# EAGLE library part HEADER-1X16 (library Adafruit Feather 328P)
PIN HEADER
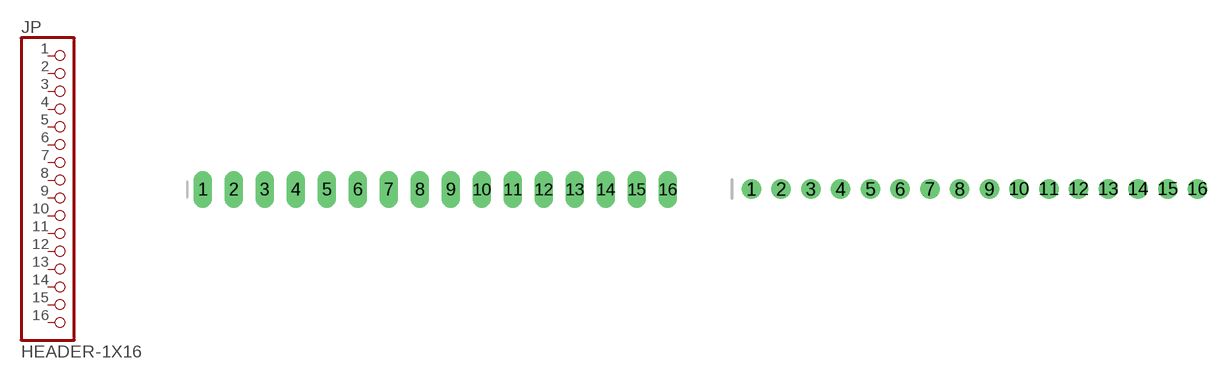
[diagram p2: symbol with the pads of 1X16_OVAL; footprints 1X16_OVAL, 1X16_2MM]

Designator prefix JP

## HEADER-1X16  [1X16_OVAL]
1  1  pas
2  2  pas
3  3  pas
4  4  pas
5  5  pas
6  6  pas
7  7  pas
8  8  pas
9  9  pas
10  10  pas
11  11  pas
12  12  pas
13  13  pas
14  14  pas
15  15  pas
16  16  pas

## HEADER-1X162MM  [1X16_2MM]
Pads as for 1X16_OVAL

## HEADER-1X162MM_OVAL  [1X16_2MM_OVAL]
P$1  1  pas
P$2  2  pas
P$3  3  pas
P$4  4  pas
P$5  5  pas
P$6  6  pas
P$7  7  pas
P$8  8  pas
P$9  9  pas
P$10  10  pas
P$11  11  pas
P$12  12  pas
P$13  13  pas
P$14  14  pas
P$15  15  pas
P$16  16  pas

## HEADER-1X16ROUND  [1X16_ROUND]
Pads as for 1X16_OVAL

## HEADER-1X16_76MIL  [1X16_ROUND_76MIL]
Pads as for 1X16_OVAL

## HEADER-1X16_MIN  [1X16_ROUND_MIN]
Pads as for 1X16_OVAL

## Footprint 1X16_OVAL (pad centres in mm)
PIN HEADER
drill 1 long: 1 -19.05,0; 2 -16.51,0; 3 -13.97,0; 4 -11.43,0; 5 -8.89,0; 6 -6.35,0; 7 -3.81,0; 8 -1.27,0; 9 1.27,0; 10 3.81,0; 11 6.35,0; 12 8.89,0; 13 11.43,0; 14 13.97,0; 15 16.51,0; 16 19.05,0

## Footprint 1X16_2MM (pad centres in mm)
drill 0.8 pad 1.27: 1 -15,0; 2 -13,0; 3 -11,0; 4 -9,0; 5 -7,0; 6 -5,0; 7 -3,0; 8 -1,0; 9 1,0; 10 3,0; 11 5,0; 12 7,0; 13 9,0; 14 11,0; 15 13,0; 16 15,0

## Footprint 1X16_2MM_OVAL (pad centres in mm)
drill 0.8 pad 1.27 long: P$1 -15,0; P$2 -13,0; P$3 -11,0; P$4 -9,0; P$5 -7,0; P$6 -5,0; P$7 -3,0; P$8 -1,0; P$9 1,0; P$10 3,0; P$11 5,0; P$12 7,0; P$13 9,0; P$14 11,0; P$15 13,0; P$16 15,0

## Footprint 1X16_ROUND (pad centres in mm)
PIN HEADER
drill 1 pad 1.676: 1 -19.05,0; 2 -16.51,0; 3 -13.97,0; 4 -11.43,0; 5 -8.89,0; 6 -6.35,0; 7 -3.81,0; 8 -1.27,0; 9 1.27,0; 10 3.81,0; 11 6.35,0; 12 8.89,0; 13 11.43,0; 14 13.97,0; 15 16.51,0; 16 19.05,0

## Footprint 1X16_ROUND_76MIL (pad centres in mm)
drill 1 pad 1.93: 1 -19.05,0; 2 -16.51,0; 3 -13.97,0; 4 -11.43,0; 5 -8.89,0; 6 -6.35,0; 7 -3.81,0; 8 -1.27,0; 9 1.27,0; 10 3.81,0; 11 6.35,0; 12 8.89,0; 13 11.43,0; 14 13.97,0; 15 16.51,0; 16 19.05,0

## Footprint 1X16_ROUND_MIN (pad centres in mm)
drill 0.9 pad 1.575: 1 -19.05,0; 2 -16.51,0; 3 -13.97,0; 4 -11.43,0; 5 -8.89,0; 6 -6.35,0; 7 -3.81,0; 8 -1.27,0; 9 1.27,0; 10 3.81,0; 11 6.35,0; 12 8.89,0; 13 11.43,0; 14 13.97,0; 15 16.51,0; 16 19.05,0